# EAGLE library part PCA-6-LA-12-HL-3-T_R (library Hector_Watch)
CONN FFC BOTTOM 12POS 0.5MM R/A Source: Datasheet <https://app.adam-tech.com/products/download/data_sheet/198708/pca-6-la-xx-hl-3-t-r-data-sheet.pdf>
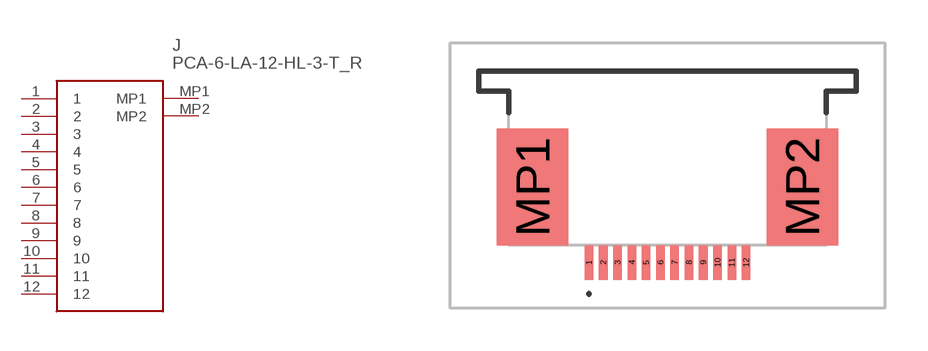
[diagram p4: symbol with the pads of PCA6LA12HL3TR; footprint PCA6LA12HL3TR]

Designator prefix J

## PCA-6-LA-12-HL-3-T_R (DESCRIPTION: CONN FFC BOTTOM 12POS 0.5MM R/A; HEIGHT: 2.808mm; MANUFACTURER_NAME: Adam Tech; MANUFACTURER_PART_NUMBER: PCA-6-LA-12-HL-3-T/R)  [PCA6LA12HL3TR]
1  1
2  2
3  3
4  4
5  5
6  6
7  7
8  8
9  9
10  10
11  11
12  12
MP1  MP1
MP2  MP2

## Footprint PCA6LA12HL3TR (pad centres in mm)
PCA-6-LA-12-HL-3-T/R-2
smd 0.3 x 1.2: 1 -2.75,-3.65; 2 -2.25,-3.65; 3 -1.75,-3.65; 4 -1.25,-3.65; 5 -0.75,-3.65; 6 -0.25,-3.65; 7 0.25,-3.65; 8 0.75,-3.65; 9 1.25,-3.65; 10 1.75,-3.65; 11 2.25,-3.65; 12 2.75,-3.65
smd 2.5 x 4.1: MP1 -4.72,-1; MP2 4.72,-1